# Altium footprint library lib.PcbLib: 22 footprints (part 1 of 2)
Each footprint in its own frame and in the unit in brackets; x right, y up, seen from the top. Pads: shape width x height; smd on the part's side, far side on the other; paste and mask are expansions set on the pad; w line width, h text height; cw(c..) or ccw(c..) is an arc to the next point about the centre after c.
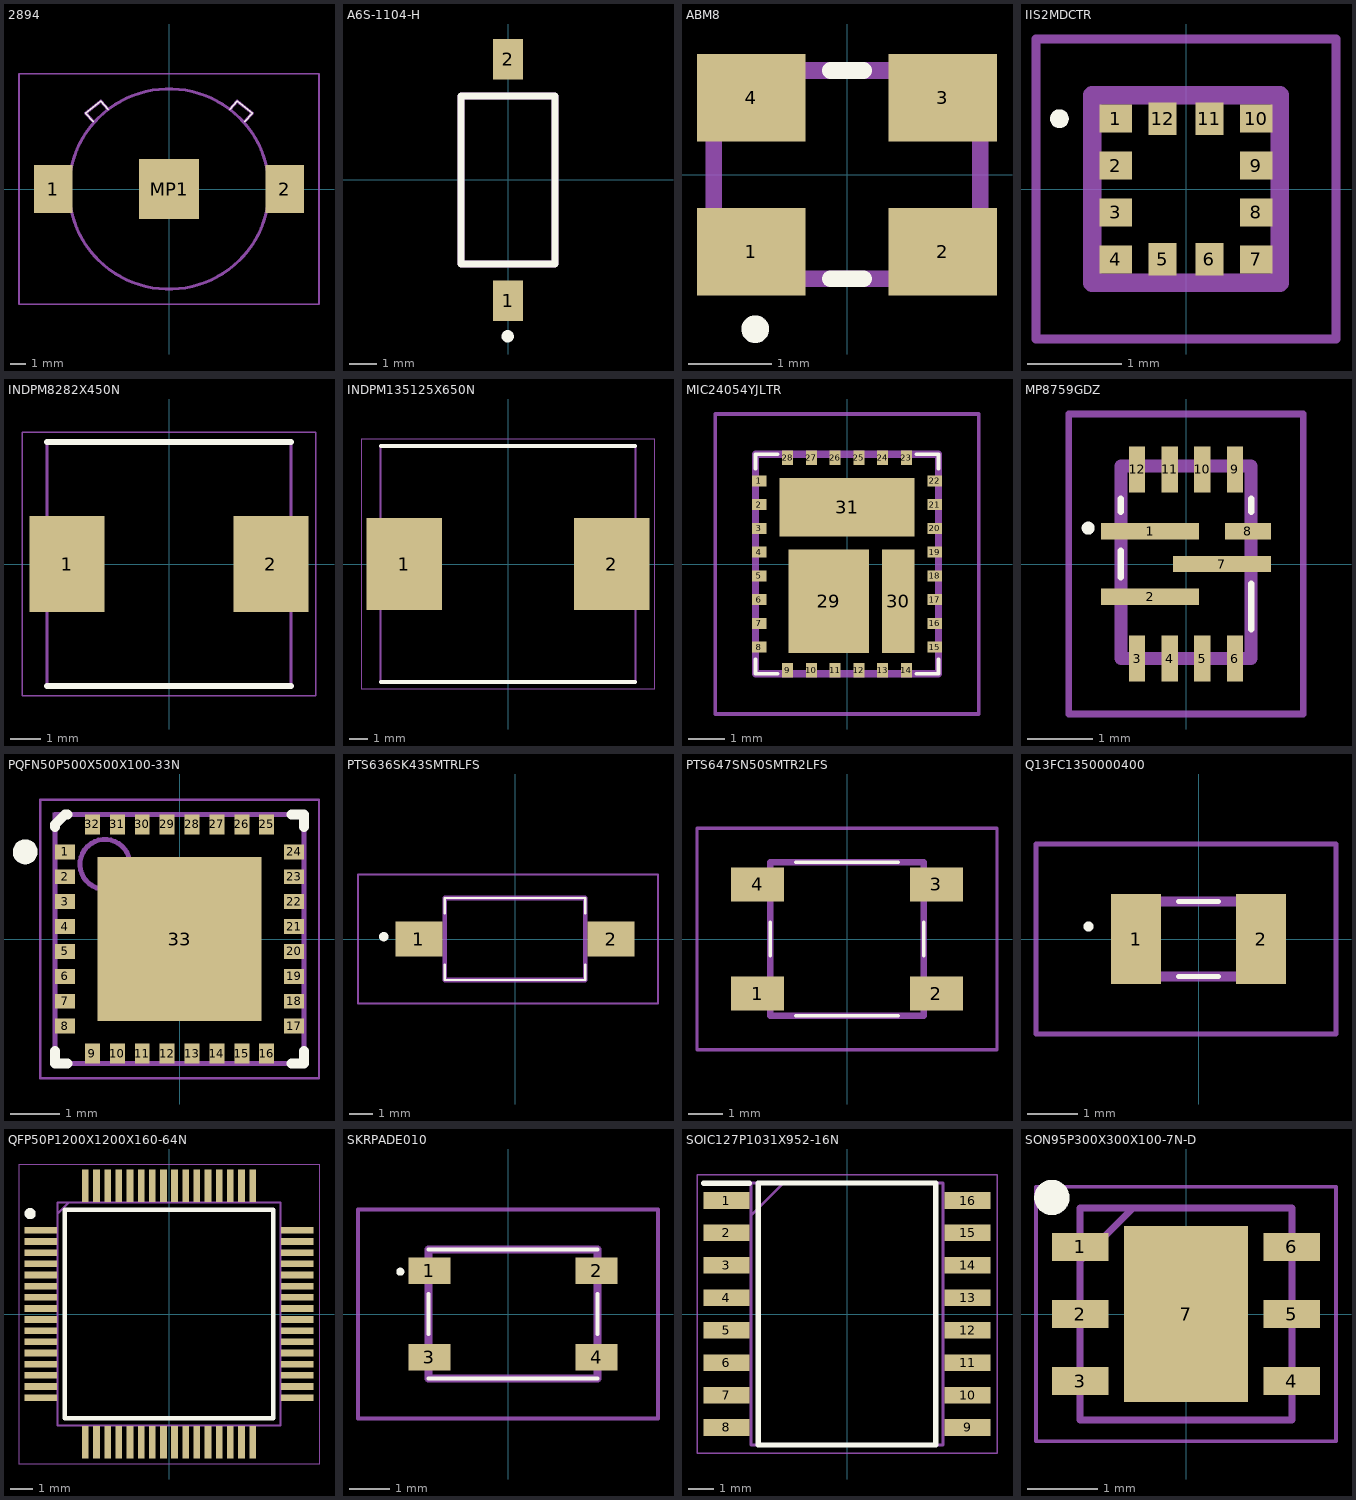
[diagram p0: the footprints below, top view; thin cyan lines are the x and y axes]

## 2894 [mm]
pads (3):
  rect 2.54x3.17 smd: 1(-7.62,0) 2(7.62,0)
  rect 3.96x3.96 smd: MP1(0,0)
F.SilkS:
  lines w0.1: -5,4.45 -5.5,5 -4.5,5.8 -4,5.25 ; 4,5.25 4.5,5.8 5.5,5 5,4.45
F.CrtYd:
  lines w0.1: -9.89,-7.605 9.89,-7.605 9.89,7.605 -9.89,7.605 -9.89,-7.605
F.Fab:
  lines w0.2: -5,4.45 -5.5,5 -4.5,5.8 -4,5.25 ; 4,5.25 4.5,5.8 5.5,5 5,4.45 ; -6.605,0 ccw(c0,0) 6.605,0 ccw(c0,0) -6.605,0
  text "'.Designator'" at -1.826,-0.506 h1.27

## A6S-1104-H [mm]
pads (2):
  rect 1.1x1.5 smd: 1(0,-4.45) 2(0,4.45)
F.SilkS:
  circle w0.254: c-0.011,-5.767 r0.1
  lines w0.254: -1.74,-3.1 -1.74,3.1 1.74,3.1 1.74,-3.1 -1.74,-3.1
F.Fab:
  lines w0.254: -1.74,-3.1 1.74,-3.1 1.74,3.1 -1.74,3.1 -1.74,-3.1
  text "'.Designator'" at -2.179,-0.545 h1.27

## ABM8 [mm]
pads (4):
  rect 1.3x1.05 smd: 1(-1.15,-0.925) 2(1.15,-0.925) 3(1.15,0.925) 4(-1.15,0.925)
F.SilkS:
  circle w0.2: c-1.101,-1.854 r0.066
  lines w0.2: -0.2,-1.25 0.2,-1.25 ; -0.2,1.25 0.2,1.25
F.Fab:
  lines w0.2: -1.6,-1.25 1.6,-1.25 1.6,1.25 -1.6,1.25 -1.6,-1.25
  text "'.Designator'" at -2.301,-0.401 h1.27

## IIS2MDCTR [mm]
pads (12):
  rect 0.35x0.3 smd: 1(-0.75,0.75) 2(-0.75,0.25) 3(-0.75,-0.25) 4(-0.75,-0.75) 7(0.75,-0.75) 8(0.75,-0.25) 9(0.75,0.25) 10(0.75,0.75)
  rect 0.3x0.35 smd: 5(-0.25,-0.75) 6(0.25,-0.75) 11(0.25,0.75) 12(-0.25,0.75)
F.SilkS:
  lines w0.1: -1.4,0.75 cw(c-1.35,0.75) -1.3,0.75 cw(c-1.35,0.75) -1.4,0.75
F.CrtYd:
  lines w0.1: -1.6,-1.6 1.6,-1.6 1.6,1.6 -1.6,1.6 -1.6,-1.6
F.Fab:
  lines w0.2: -1,-1 1,-1 1,1 -1,1 -1,-1
  text "'.Designator'" at -1.826,-0.506 h1.27

## INDPM8282X450N [mm]
pads (2):
  rect 2.5x3.2 smd: 1(-3.4,0) 2(3.4,0)
F.SilkS:
  lines w0.2: -4.075,-4.075 4.075,-4.075 ; -4.075,4.075 4.075,4.075
F.CrtYd:
  lines w0.05: -4.9,-4.4 4.9,-4.4 4.9,4.4 -4.9,4.4 -4.9,-4.4
F.Fab:
  lines w0.1: -4.075,-4.075 4.075,-4.075 4.075,4.075 -4.075,4.075 -4.075,-4.075
  text "'.Designator'" at -1.826,-0.506 h1.27

## INDPM135125X650N [mm]
pads (2):
  rect 4x4.9 smd: 1(-5.5,0) 2(5.5,0)
F.SilkS:
  lines w0.2: -6.75,-6.25 6.75,-6.25 ; -6.75,6.25 6.75,6.25
F.CrtYd:
  lines w0.05: -7.75,-6.65 7.75,-6.65 7.75,6.65 -7.75,6.65 -7.75,-6.65
F.Fab:
  lines w0.1: -6.75,-6.25 6.75,-6.25 6.75,6.25 -6.75,6.25 -6.75,-6.25
  text "'.Designator'" at -1.826,-0.506 h1.27

## MIC24054YJLTR [mm]
pads (31):
  rect 0.4x0.3 smd: 1(-2.4,2.275) 2(-2.4,1.625) 3(-2.4,0.975) 4(-2.4,0.325) 5(-2.4,-0.325) 6(-2.4,-0.975) 7(-2.4,-1.625) 8(-2.4,-2.275) 15(2.4,-2.275) 16(2.4,-1.625) 17(2.4,-0.975) 18(2.4,-0.325) 19(2.4,0.325) 20(2.4,0.975) 21(2.4,1.625) 22(2.4,2.275)
  rect 0.3x0.4 smd: 9(-1.625,-2.9) 10(-0.975,-2.9) 11(-0.325,-2.9) 12(0.325,-2.9) 13(0.975,-2.9) 14(1.625,-2.9) 23(1.625,2.9) 24(0.975,2.9) 25(0.325,2.9) 26(-0.325,2.9) 27(-0.975,2.9) 28(-1.625,2.9)
  rect 2.2x2.83 smd: 29(-0.5,-1.015)
  rect 0.9x2.83 smd: 30(1.4,-1.015)
  rect 3.7x1.6 smd: 31(0,1.55)
F.SilkS:
  lines w0.1: -2.5,-2.6 -2.5,-3 -1.9,-3 ; -2.5,2.6 -2.5,3 -1.9,3 ; 1.9,-3 2.5,-3 2.5,-2.6 ; 1.9,3 2.5,3 2.5,2.6
F.CrtYd:
  lines w0.1: -3.6,-4.1 3.6,-4.1 3.6,4.1 -3.6,4.1 -3.6,-4.1
F.Fab:
  lines w0.2: -2.5,-3 2.5,-3 2.5,3 -2.5,3 -2.5,-3
  text "'.Designator'" at -1.826,-0.506 h1.27

## MP8759GDZ [mm]
pads (12):
  rect 1.5x0.25 smd: 1(-0.55,0.5) 2(-0.55,-0.5) 7(0.55,0)
  rect 0.25x0.7 smd: 3(-0.75,-1.45) 4(-0.25,-1.45) 5(0.25,-1.45) 6(0.75,-1.45) 9(0.75,1.45) 10(0.25,1.45) 11(-0.25,1.45) 12(-0.75,1.45)
  rect 0.7x0.25 smd: 8(0.95,0.5)
F.SilkS:
  lines w0.1: -1,-0.2 -1,0.2 ; -1,0.8 -1,1 ; 1,-1 1,-0.3 ; 1,0.8 1,1 ; -1.5,0.5 cw(c-1.5,0.55) -1.5,0.6 cw(c-1.5,0.55) -1.5,0.5
F.CrtYd:
  lines w0.1: -1.8,-2.3 1.8,-2.3 1.8,2.3 -1.8,2.3 -1.8,-2.3
F.Fab:
  lines w0.2: -1,-1.45 1,-1.45 1,1.5 -1,1.5 -1,-1.45
  text "'.Designator'" at -1.826,-0.506 h1.27

## PQFN50P500X500X100-33N [mm]
pads (33):
  rect 0.4x0.3 smd: 1(-2.3,1.75) 2(-2.3,1.25) 3(-2.3,0.75) 4(-2.3,0.25) 5(-2.3,-0.25) 6(-2.3,-0.75) 7(-2.3,-1.25) 8(-2.3,-1.75) 17(2.3,-1.75) 18(2.3,-1.25) 19(2.3,-0.75) 20(2.3,-0.25) 21(2.3,0.25) 22(2.3,0.75) 23(2.3,1.25) 24(2.3,1.75)
  rect 0.3x0.4 smd: 9(-1.75,-2.3) 10(-1.25,-2.3) 11(-0.75,-2.3) 12(-0.25,-2.3) 13(0.25,-2.3) 14(0.75,-2.3) 15(1.25,-2.3) 16(1.75,-2.3) 25(1.75,2.3) 26(1.25,2.3) 27(0.75,2.3) 28(0.25,2.3) 29(-0.25,2.3) 30(-0.75,2.3) 31(-1.25,2.3) 32(-1.75,2.3)
  rect 3.3x3.3 smd: 33(0,0)
F.SilkS:
  circle w0.25: c-3.1,1.75 r0.125
  lines w0.2: -2.5,-2.25 -2.5,-2.5 -2.25,-2.5 ; -2.5,2.25 -2.5,2.3 -2.3,2.5 -2.25,2.5 ; 2.25,-2.5 2.5,-2.5 2.5,-2.25 ; 2.25,2.5 2.5,2.5 2.5,2.25
F.CrtYd:
  lines w0.001: -2.538,-2.538 -2.538,2.538 2.538,2.538 2.538,-2.538 -2.538,-2.538
  lines w0.05: -0.5,0 0.5,0 ; 0,-0.5 0,0.5 ; -2.8,-2.8 -2.8,2.8 2.8,2.8 2.8,-2.8 -2.8,-2.8
F.Fab:
  circle w0.1: c-1.5,1.5 r0.5
  lines w0.1: -2.5,-2.5 -2.5,2.5 2.5,2.5 2.5,-2.5 -2.5,-2.5
  text "'.Designator'" at -1.826,-0.506 h1.27

## PTS636SK43SMTRLFS [mm]
pads (2):
  rect 2x1.5 smd: 1(-4.1,0) 2(4.1,0)
F.SilkS:
  lines w0.1: -3,-1.1 -3,-1.75 3,-1.75 3,-1.1 ; -3,1.1 -3,1.75 3,1.75 3,1.1
  lines w0.2: -5.7,0.1 ccw(c-5.6,0.1) -5.5,0.1 ccw(c-5.6,0.1) -5.7,0.1
F.CrtYd:
  lines w0.1: -6.7,-2.75 6.1,-2.75 6.1,2.75 -6.7,2.75 -6.7,-2.75
F.Fab:
  lines w0.2: -3,-1.75 3,-1.75 3,1.75 -3,1.75 -3,-1.75
  text "'.Designator'" at -2.126,-0.506 h1.27

## PTS647SN50SMTR2LFS [mm]
pads (4):
  rect 1.55x1 smd: 1(-2.625,-1.6) 2(2.625,-1.6) 3(2.625,1.6) 4(-2.625,1.6)
F.SilkS:
  lines w0.1: -2.25,-0.5 -2.25,0.5 ; -1.5,-2.25 1.5,-2.25 ; -1.5,2.25 1.5,2.25 ; 2.25,-0.5 2.25,0.5
F.CrtYd:
  lines w0.1: -4.4,-3.25 4.4,-3.25 4.4,3.25 -4.4,3.25 -4.4,-3.25
F.Fab:
  lines w0.2: -2.25,-2.25 2.25,-2.25 2.25,2.25 -2.25,2.25 -2.25,-2.25
  text "'.Designator'" at -1.826,-0.506 h1.27

## Q13FC1350000400 [mm]
pads (2):
  rect 1x1.8 smd: 1(-1.25,0) 2(1.25,0)
F.SilkS:
  lines w0.1: -0.4,-0.75 0.4,-0.75 ; -0.4,0.75 0.4,0.75 ; -2.2,0.2 ccw(c-2.2,0.25) -2.2,0.3 ccw(c-2.2,0.25) -2.2,0.2
F.CrtYd:
  lines w0.1: -3.25,-1.9 2.75,-1.9 2.75,1.9 -3.25,1.9 -3.25,-1.9
F.Fab:
  lines w0.2: -1.6,-0.75 1.6,-0.75 1.6,0.75 -1.6,0.75 -1.6,-0.75
  text "'.Designator'" at -2.076,-0.506 h1.27

## QFP50P1200X1200X160-64N [mm]
pads (64):
  rect 1.45x0.3 smd: 1(-5.75,3.75) 2(-5.75,3.25) 3(-5.75,2.75) 4(-5.75,2.25) 5(-5.75,1.75) 6(-5.75,1.25) 7(-5.75,0.75) 8(-5.75,0.25) 9(-5.75,-0.25) 10(-5.75,-0.75) 11(-5.75,-1.25) 12(-5.75,-1.75) 13(-5.75,-2.25) 14(-5.75,-2.75) 15(-5.75,-3.25) 16(-5.75,-3.75) 33(5.75,-3.75) 34(5.75,-3.25) 35(5.75,-2.75) 36(5.75,-2.25) 37(5.75,-1.75) 38(5.75,-1.25) 39(5.75,-0.75) 40(5.75,-0.25) 41(5.75,0.25) 42(5.75,0.75) 43(5.75,1.25) 44(5.75,1.75) 45(5.75,2.25) 46(5.75,2.75) 47(5.75,3.25) 48(5.75,3.75)
  rect 0.3x1.45 smd: 17(-3.75,-5.75) 18(-3.25,-5.75) 19(-2.75,-5.75) 20(-2.25,-5.75) 21(-1.75,-5.75) 22(-1.25,-5.75) 23(-0.75,-5.75) 24(-0.25,-5.75) 25(0.25,-5.75) 26(0.75,-5.75) 27(1.25,-5.75) 28(1.75,-5.75) 29(2.25,-5.75) 30(2.75,-5.75) 31(3.25,-5.75) 32(3.75,-5.75) 49(3.75,5.75) 50(3.25,5.75) 51(2.75,5.75) 52(2.25,5.75) 53(1.75,5.75) 54(1.25,5.75) 55(0.75,5.75) 56(0.25,5.75) 57(-0.25,5.75) 58(-0.75,5.75) 59(-1.25,5.75) 60(-1.75,5.75) 61(-2.25,5.75) 62(-2.75,5.75) 63(-3.25,5.75) 64(-3.75,5.75)
F.SilkS:
  circle w0.25: c-6.225,4.5 r0.125
  lines w0.2: -4.675,-4.675 4.675,-4.675 4.675,4.675 -4.675,4.675 -4.675,-4.675
F.CrtYd:
  lines w0.05: -6.725,-6.725 6.725,-6.725 6.725,6.725 -6.725,6.725 -6.725,-6.725
F.Fab:
  lines w0.1: -5,4.5 -4.5,5 ; -5,-5 5,-5 5,5 -5,5 -5,-5
  text "'.Designator'" at -1.826,-0.506 h1.27

## SKRPADE010 [mm]
pads (4):
  rect 1.05x0.65 smd: 1(-1.95,1.075) 2(2.2,1.075) 3(-1.95,-1.075) 4(2.2,-1.075)
F.SilkS:
  lines w0.1: -1.975,-1.6 2.225,-1.6 ; -1.975,-0.5 -1.975,0.5 ; -1.975,1.6 2.225,1.6 ; 2.225,-0.5 2.225,0.5 ; -2.675,1 ccw(c-2.675,1.05) -2.675,1.1 ccw(c-2.675,1.05) -2.675,1
F.CrtYd:
  lines w0.1: -3.725,-2.6 3.725,-2.6 3.725,2.6 -3.725,2.6 -3.725,-2.6
F.Fab:
  lines w0.2: -1.975,-1.6 2.225,-1.6 2.225,1.6 -1.975,1.6 -1.975,-1.6
  text "'.Designator'" at -1.826,-0.506 h1.27

## SOIC127P1031X952-16N [mm]
pads (16):
  rect 1.8x0.65 smd: 1(-4.725,4.445) 2(-4.725,3.175) 3(-4.725,1.905) 4(-4.725,0.635) 5(-4.725,-0.635) 6(-4.725,-1.905) 7(-4.725,-3.175) 8(-4.725,-4.445) 9(4.725,-4.445) 10(4.725,-3.175) 11(4.725,-1.905) 12(4.725,-0.635) 13(4.725,0.635) 14(4.725,1.905) 15(4.725,3.175) 16(4.725,4.445)
F.SilkS:
  lines w0.2: -5.625,5.12 -3.825,5.12 ; -3.475,-5.13 3.475,-5.13 3.475,5.13 -3.475,5.13 -3.475,-5.13
F.CrtYd:
  lines w0.05: -5.875,-5.445 5.875,-5.445 5.875,5.445 -5.875,5.445 -5.875,-5.445
F.Fab:
  lines w0.1: -3.76,3.86 -2.49,5.13 ; -3.76,-5.13 3.76,-5.13 3.76,5.13 -3.76,5.13 -3.76,-5.13
  text "'.Designator'" at -1.826,-0.506 h1.27

## SON95P300X300X100-7N-D [mm]
pads (7):
  rect 0.8x0.4 smd: 1(-1.5,0.95) 2(-1.5,0) 3(-1.5,-0.95) 4(1.5,-0.95) 5(1.5,0) 6(1.5,0.95)
  rect 1.75x2.5 smd: 7(0,0)
F.SilkS:
  circle w0.25: c-1.9,1.65 r0.125
F.CrtYd:
  lines w0.05: -2.125,-1.8 2.125,-1.8 2.125,1.8 -2.125,1.8 -2.125,-1.8
F.Fab:
  lines w0.1: -1.5,0.75 -0.75,1.5 ; -1.5,-1.5 1.5,-1.5 1.5,1.5 -1.5,1.5 -1.5,-1.5
  text "'.Designator'" at -1.826,-0.506 h1.27